# EAGLE library part XBEE-SMT-RF-MODULE (library m_module)
XBee®/XBee‐PRO® ZB SMT RF Modules Module Datasheet <http://www.digi.com/pdf/ds_xbeezbsmt.pdf> Added 6/8/2012, manual revision 90002002_E
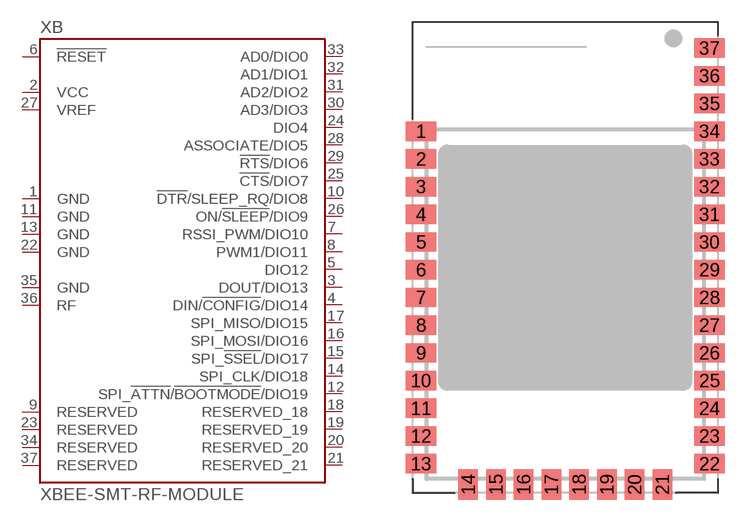
[diagram p5: symbol with the pads of XBEE-SMT; footprint XBEE-SMT]

Designator prefix XB

## XBEE-SMT-RF-MODULE (MANUF: Digi; PARTNUM: XB24CZ7PIS)  [XBEE-SMT]
1  GND  pas
2  VCC  pas
3  DOUT/DIO13  pas
4  DIN/!CONFIG!/DIO14  pas
5  DIO12  pas
6  !RESET  pas
7  RSSI_PWM/DIO10  pas
8  PWM1/DIO11  pas
9  RESERVED  pas
10  !DTR!/SLEEP_RQ/DIO8  pas
11  GND  pas
12  SPI_!ATTN!/!BOOTMODE!/DIO19  pas
13  GND  pas
14  SPI_CLK/DIO18  pas
15  SPI_!SSEL!/DIO17  pas
16  SPI_MOSI/DIO16  pas
17  SPI_MISO/DIO15  pas
18  RESERVED_18  pas
19  RESERVED_19  pas
20  RESERVED_20  pas
21  RESERVED_21  pas
22  GND  pas
23  RESERVED  pas
24  DIO4  pas
25  !CTS!/DIO7  pas
26  ON/!SLEEP!/DIO9  pas
27  VREF  pas
28  ASSOCIATE/DIO5  pas
29  !RTS!/DIO6  pas
30  AD3/DIO3  pas
31  AD2/DIO2  pas
32  AD1/DIO1  pas
33  AD0/DIO0  pas
34  RESERVED  pas
35  GND  pas
36  RF  pas
37  RESERVED  pas

## Footprint XBEE-SMT (pad centres in mm)
XBee®/XBee‐PRO® ZB SMT RF Modules Added 6/7/2012
smd 2.2 x 1.4: 1 -10.4,9.1; 2 -10.4,7.1; 3 -10.4,5.1; 4 -10.4,3.1; 5 -10.4,1.1; 6 -10.4,-0.9; 7 -10.4,-2.9; 8 -10.4,-4.9; 9 -10.4,-6.9; 10 -10.4,-8.9; 11 -10.4,-10.9; 12 -10.4,-12.9; 13 -10.4,-14.9; 22 10.4,-14.9; 23 10.4,-12.9; 24 10.4,-10.9; 25 10.4,-8.9; 26 10.4,-6.9; 27 10.4,-4.9; 28 10.4,-2.9; 29 10.4,-0.9; 30 10.4,1.1; 31 10.4,3.1; 32 10.4,5.1; 33 10.4,7.1; 34 10.4,9.1; 35 10.4,11.1; 36 10.4,13.1; 37 10.4,15.1
smd 1.4 x 2.2: 14 -7,-16.4; 15 -5,-16.4; 16 -3,-16.4; 17 -1,-16.4; 18 1,-16.4; 19 3,-16.4; 20 5,-16.4; 21 7,-16.4